# Altium schematic symbol library NUVOTON_NUC122_LIBRARY_Library.SchLib: 7 symbols
Pins are listed as number, name and electrical type; pins without a type are passive.

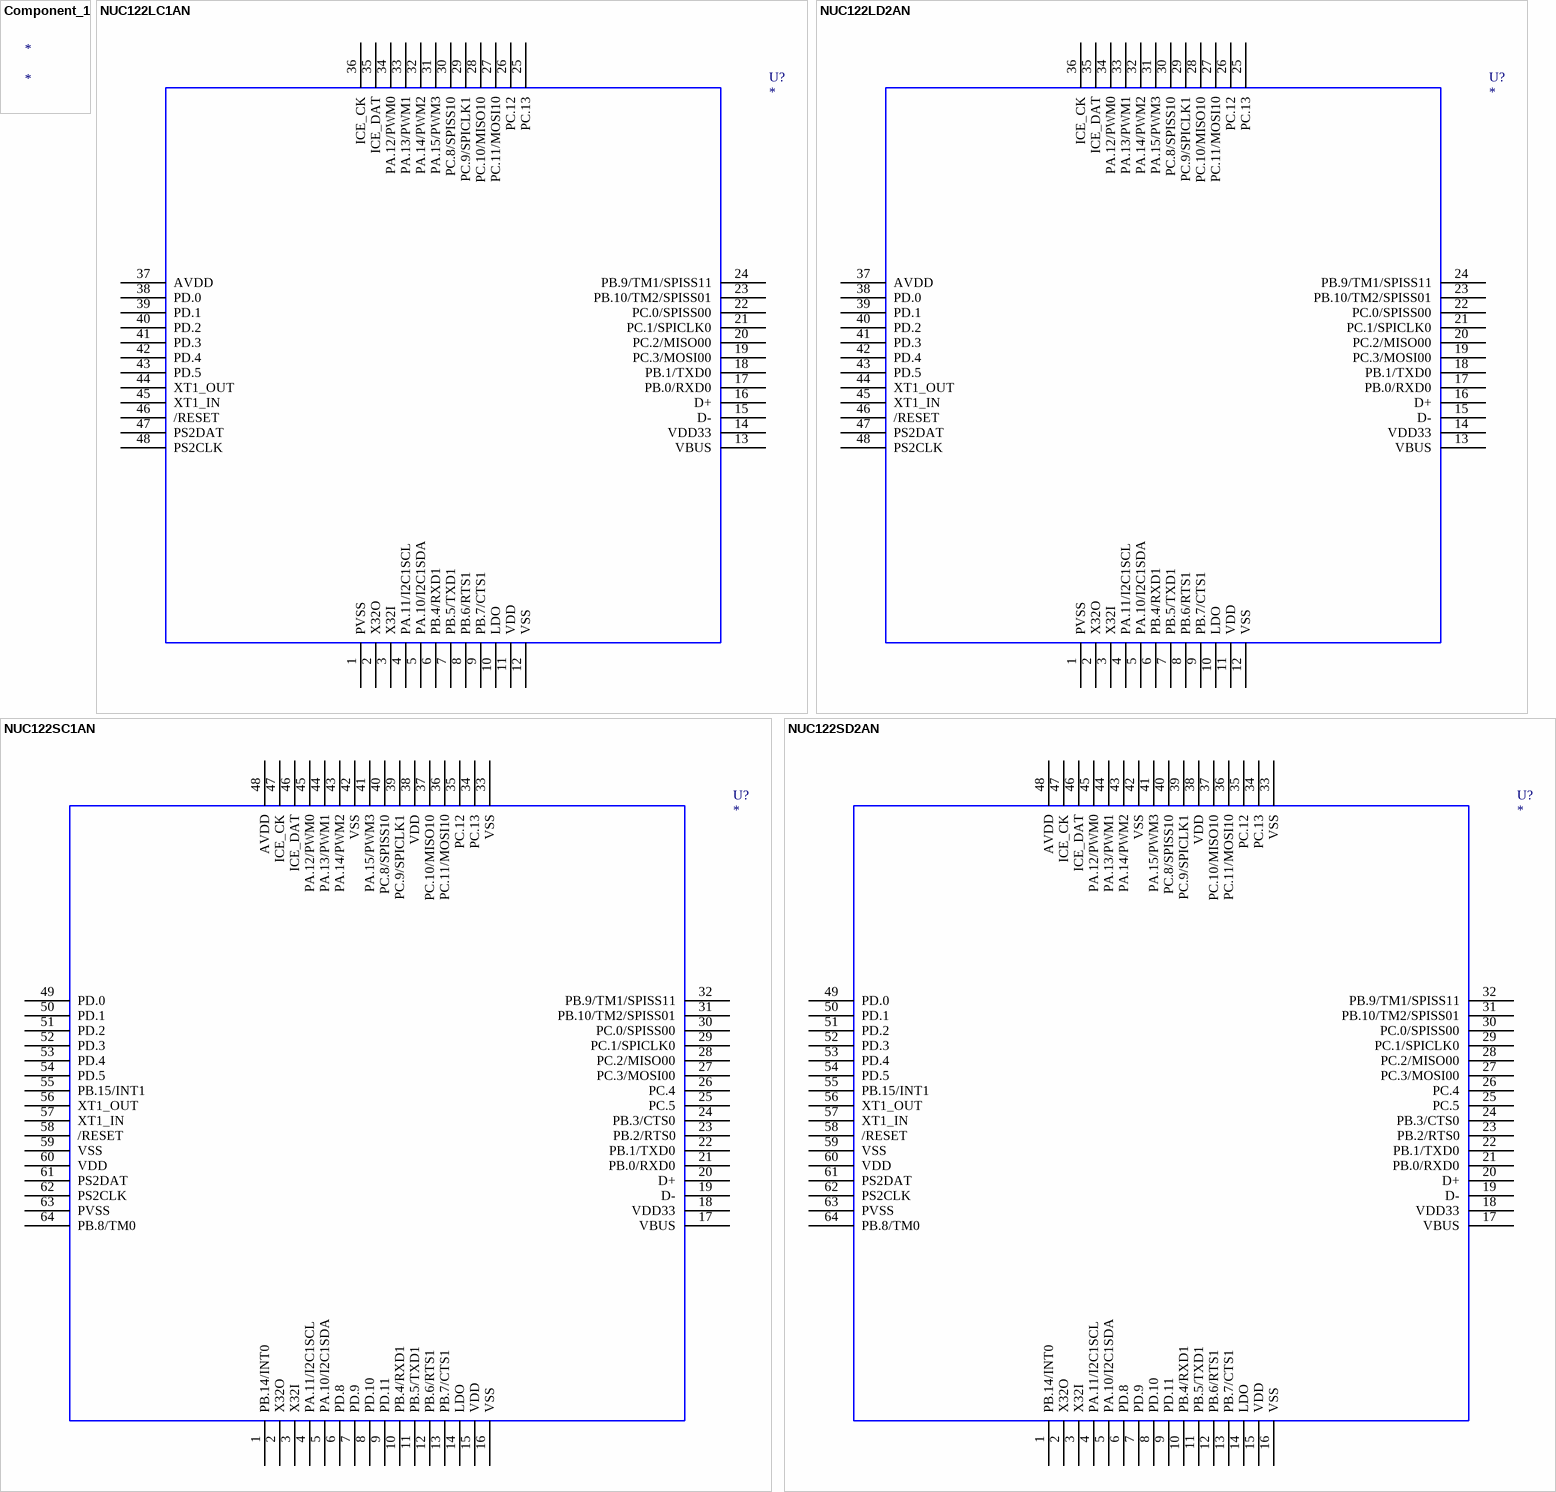
[diagram p0: symbols Component_1 to NUC122SD2AN]

## Component_1
designator *

## NUC122LC1AN
designator U?
OriginalSymbolOrigin: (0,0)
footprint MCU_LQFP_48
pins: 1 PVSS, 2 X32O, 3 X32I, 4 PA.11/I2C1SCL, 5 PA.10/I2C1SDA, 6 PB.4/RXD1, 7 PB.5/TXD1, 8 PB.6/RTS1, 9 PB.7/CTS1, 10 LDO, 11 VDD, 12 VSS, 13 VBUS, 14 VDD33, 15 D-, 16 D+, 17 PB.0/RXD0, 18 PB.1/TXD0, 19 PC.3/MOSI00, 20 PC.2/MISO00, 21 PC.1/SPICLK0, 22 PC.0/SPISS00, 23 PB.10/TM2/SPISS01, 24 PB.9/TM1/SPISS11, 25 PC.13, 26 PC.12, 27 PC.11/MOSI10, 28 PC.10/MISO10, 29 PC.9/SPICLK1, 30 PC.8/SPISS10, 31 PA.15/PWM3, 32 PA.14/PWM2, 33 PA.13/PWM1, 34 PA.12/PWM0, 35 ICE_DAT, 36 ICE_CK, 37 AVDD, 38 PD.0, 39 PD.1, 40 PD.2, 41 PD.3, 42 PD.4, 43 PD.5, 44 XT1_OUT, 45 XT1_IN, 46 /RESET, 47 PS2DAT, 48 PS2CLK

## NUC122LD2AN
designator U?
OriginalSymbolOrigin: (0,0)
footprint MCU_LQFP_48
pins: 1 PVSS, 2 X32O, 3 X32I, 4 PA.11/I2C1SCL, 5 PA.10/I2C1SDA, 6 PB.4/RXD1, 7 PB.5/TXD1, 8 PB.6/RTS1, 9 PB.7/CTS1, 10 LDO, 11 VDD, 12 VSS, 13 VBUS, 14 VDD33, 15 D-, 16 D+, 17 PB.0/RXD0, 18 PB.1/TXD0, 19 PC.3/MOSI00, 20 PC.2/MISO00, 21 PC.1/SPICLK0, 22 PC.0/SPISS00, 23 PB.10/TM2/SPISS01, 24 PB.9/TM1/SPISS11, 25 PC.13, 26 PC.12, 27 PC.11/MOSI10, 28 PC.10/MISO10, 29 PC.9/SPICLK1, 30 PC.8/SPISS10, 31 PA.15/PWM3, 32 PA.14/PWM2, 33 PA.13/PWM1, 34 PA.12/PWM0, 35 ICE_DAT, 36 ICE_CK, 37 AVDD, 38 PD.0, 39 PD.1, 40 PD.2, 41 PD.3, 42 PD.4, 43 PD.5, 44 XT1_OUT, 45 XT1_IN, 46 /RESET, 47 PS2DAT, 48 PS2CLK

## NUC122SC1AN
designator U?
OriginalSymbolOrigin: (0,0)
footprint MCU_LQFP_64_7x7
pins: 1 PB.14/INT0, 2 X32O, 3 X32I, 4 PA.11/I2C1SCL, 5 PA.10/I2C1SDA, 6 PD.8, 7 PD.9, 8 PD.10, 9 PD.11, 10 PB.4/RXD1, 11 PB.5/TXD1, 12 PB.6/RTS1, 13 PB.7/CTS1, 14 LDO, 15 VDD, 16 VSS, 17 VBUS, 18 VDD33, 19 D-, 20 D+, 21 PB.0/RXD0, 22 PB.1/TXD0, 23 PB.2/RTS0, 24 PB.3/CTS0, 25 PC.5, 26 PC.4, 27 PC.3/MOSI00, 28 PC.2/MISO00, 29 PC.1/SPICLK0, 30 PC.0/SPISS00, 31 PB.10/TM2/SPISS01, 32 PB.9/TM1/SPISS11, 33 VSS, 34 PC.13, 35 PC.12, 36 PC.11/MOSI10, 37 PC.10/MISO10, 38 VDD, 39 PC.9/SPICLK1, 40 PC.8/SPISS10, 41 PA.15/PWM3, 42 VSS, 43 PA.14/PWM2, 44 PA.13/PWM1, 45 PA.12/PWM0, 46 ICE_DAT, 47 ICE_CK, 48 AVDD, 49 PD.0, 50 PD.1, 51 PD.2, 52 PD.3, 53 PD.4, 54 PD.5, 55 PB.15/INT1, 56 XT1_OUT, 57 XT1_IN, 58 /RESET, 59 VSS, 60 VDD, 61 PS2DAT, 62 PS2CLK, 63 PVSS, 64 PB.8/TM0

## NUC122SD2AN
designator U?
OriginalSymbolOrigin: (0,0)
footprint MCU_LQFP_64_7x7
pins: 1 PB.14/INT0, 2 X32O, 3 X32I, 4 PA.11/I2C1SCL, 5 PA.10/I2C1SDA, 6 PD.8, 7 PD.9, 8 PD.10, 9 PD.11, 10 PB.4/RXD1, 11 PB.5/TXD1, 12 PB.6/RTS1, 13 PB.7/CTS1, 14 LDO, 15 VDD, 16 VSS, 17 VBUS, 18 VDD33, 19 D-, 20 D+, 21 PB.0/RXD0, 22 PB.1/TXD0, 23 PB.2/RTS0, 24 PB.3/CTS0, 25 PC.5, 26 PC.4, 27 PC.3/MOSI00, 28 PC.2/MISO00, 29 PC.1/SPICLK0, 30 PC.0/SPISS00, 31 PB.10/TM2/SPISS01, 32 PB.9/TM1/SPISS11, 33 VSS, 34 PC.13, 35 PC.12, 36 PC.11/MOSI10, 37 PC.10/MISO10, 38 VDD, 39 PC.9/SPICLK1, 40 PC.8/SPISS10, 41 PA.15/PWM3, 42 VSS, 43 PA.14/PWM2, 44 PA.13/PWM1, 45 PA.12/PWM0, 46 ICE_DAT, 47 ICE_CK, 48 AVDD, 49 PD.0, 50 PD.1, 51 PD.2, 52 PD.3, 53 PD.4, 54 PD.5, 55 PB.15/INT1, 56 XT1_OUT, 57 XT1_IN, 58 /RESET, 59 VSS, 60 VDD, 61 PS2DAT, 62 PS2CLK, 63 PVSS, 64 PB.8/TM0

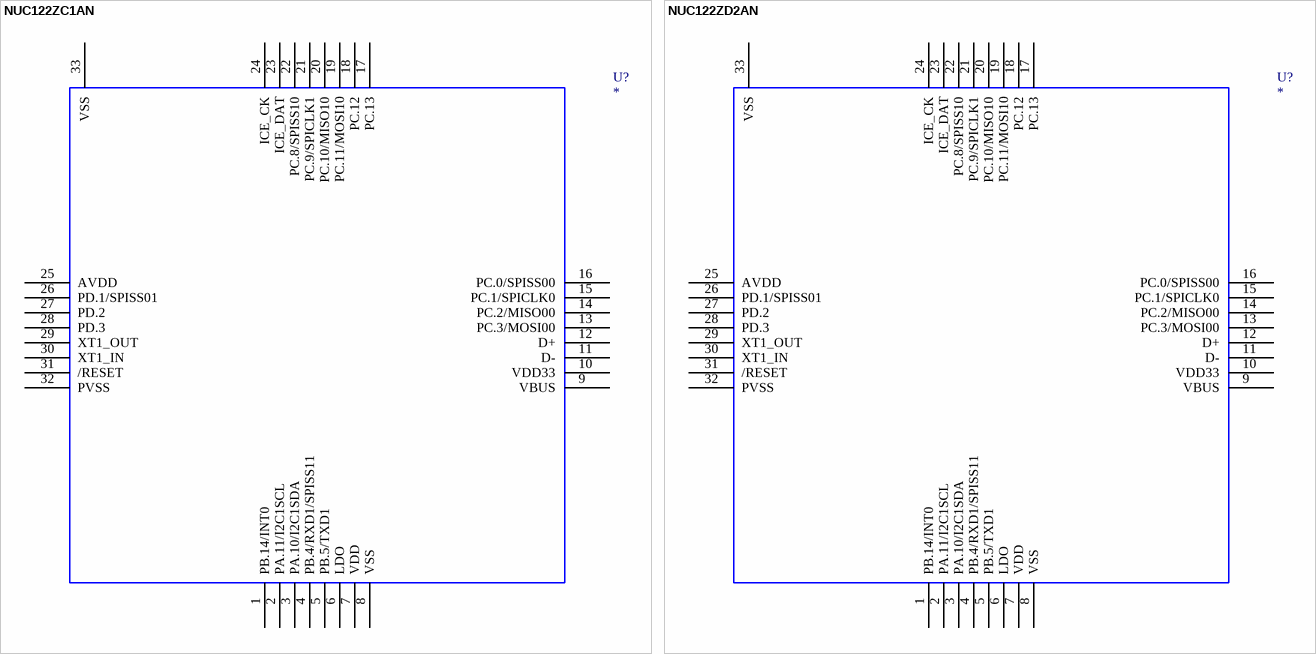
[diagram p1: symbols NUC122ZC1AN to NUC122ZD2AN]

## NUC122ZC1AN
designator U?
OriginalSymbolOrigin: (0,0)
footprint MCU_QFN_33_5x5
pins: 1 PB.14/INT0, 2 PA.11/I2C1SCL, 3 PA.10/I2C1SDA, 4 PB.4/RXD1/SPISS11, 5 PB.5/TXD1, 6 LDO, 7 VDD, 8 VSS, 9 VBUS, 10 VDD33, 11 D-, 12 D+, 13 PC.3/MOSI00, 14 PC.2/MISO00, 15 PC.1/SPICLK0, 16 PC.0/SPISS00, 17 PC.13, 18 PC.12, 19 PC.11/MOSI10, 20 PC.10/MISO10, 21 PC.9/SPICLK1, 22 PC.8/SPISS10, 23 ICE_DAT, 24 ICE_CK, 25 AVDD, 26 PD.1/SPISS01, 27 PD.2, 28 PD.3, 29 XT1_OUT, 30 XT1_IN, 31 /RESET, 32 PVSS, 33 VSS

## NUC122ZD2AN
designator U?
OriginalSymbolOrigin: (0,0)
footprint MCU_QFN_33_5x5
pins: 1 PB.14/INT0, 2 PA.11/I2C1SCL, 3 PA.10/I2C1SDA, 4 PB.4/RXD1/SPISS11, 5 PB.5/TXD1, 6 LDO, 7 VDD, 8 VSS, 9 VBUS, 10 VDD33, 11 D-, 12 D+, 13 PC.3/MOSI00, 14 PC.2/MISO00, 15 PC.1/SPICLK0, 16 PC.0/SPISS00, 17 PC.13, 18 PC.12, 19 PC.11/MOSI10, 20 PC.10/MISO10, 21 PC.9/SPICLK1, 22 PC.8/SPISS10, 23 ICE_DAT, 24 ICE_CK, 25 AVDD, 26 PD.1/SPISS01, 27 PD.2, 28 PD.3, 29 XT1_OUT, 30 XT1_IN, 31 /RESET, 32 PVSS, 33 VSS